# Altium footprint library THU VIEN 2.PcbLib: 12 footprints
Each footprint in its own frame and in the unit in brackets; x right, y up, seen from the top. Pads: shape width x height; smd on the part's side, far side on the other; paste and mask are expansions set on the pad; w line width, h text height; cw(c..) or ccw(c..) is an arc to the next point about the centre after c.
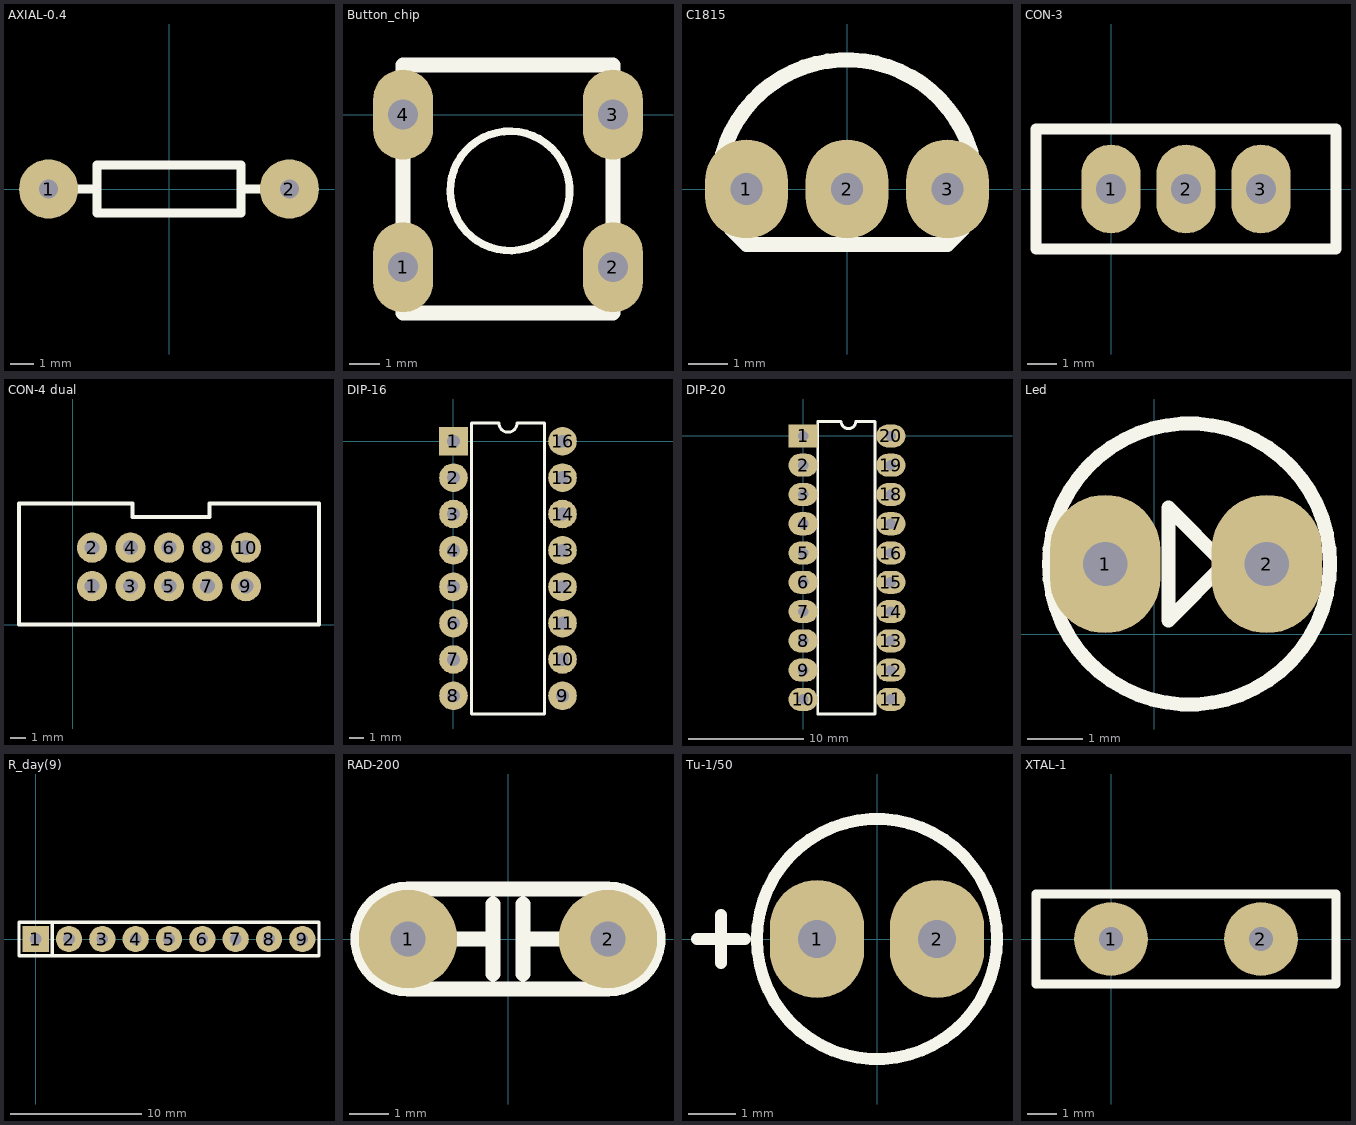
[diagram p0: the footprints below, top view; thin cyan lines are the x and y axes]

## AXIAL-0.4 [mm]
pads (2):
  round 2.5 hole 0.8: 1(-5.08,0) 2(5.08,0)
Top Overlay:
  lines w0.381: -4.064,0 -3.048,0 ; 3.048,0 4.064,0 ; -3.048,-1.016 3.048,-1.016 3.048,1.016 -3.048,1.016 -3.048,-1.016

## Button_chip [mm]
pads (4):
  oval 2x3 hole 1: 1(7.62,-5.08) 2(14.605,-5.08) 3(14.605,0) 4(7.62,0)
Top Overlay:
  lines w0.254: 13.16,-2.416 cw(c11.176,-2.54) 13.159,-2.408
  lines w0.5: 7.62,-6.604 7.62,1.651 14.605,1.651 14.605,-6.604 7.62,-6.604

## C1815 [mm]
pads (3):
  oval 2.1x2.5 hole 0.8: 1(-2.54,0) 2(0,0) 3(2.54,0)
Top Overlay:
  lines w0.381: -3.212,0.584 cw(c0,0) 3.202,0.64 ; -2.921,-1.016 -2.54,-1.397 2.54,-1.397 2.921,-1.016

## CON-3 [mm]
pads (3):
  oval 2x3 hole 1: 1(0,0) 2(2.54,0) 3(5.08,0)
Top Overlay:
  lines w0.381: -2.54,-2.032 7.62,-2.032 7.62,2.032 -2.54,2.032 -2.54,-2.032

## CON-4 dual [mm]
pads (10):
  round 2 hole 1: 1(1.27,2.54) 2(1.27,5.08) 3(3.81,2.54) 4(3.81,5.08) 5(6.35,2.54) 6(6.35,5.08) 7(8.89,2.54) 8(8.89,5.08) 9(11.43,2.54) 10(11.43,5.08)
Top Overlay:
  lines w0.254: -3.556,0 -3.556,8.001 3.937,8.001 3.937,7.112 9.017,7.112 9.017,8.001 16.256,8.001 16.256,0 -3.556,0

## DIP-16 [mm]
pads (16):
  rect 2x2 hole 0.9: 1(0,0)
  round 2 hole 0.9: 2(0,-2.54) 3(0,-5.08) 4(0,-7.62) 5(0,-10.16) 6(0,-12.7) 7(0,-15.24) 8(0,-17.78) 9(7.62,-17.78) 10(7.62,-15.24) 11(7.62,-12.7) 12(7.62,-10.16) 13(7.62,-7.62) 14(7.62,-5.08) 15(7.62,-2.54) 16(7.62,0)
Top Overlay:
  lines w0.2: 1.27,-19.05 6.35,-19.05 6.35,1.27 4.445,1.27 cw(c3.81,1.27) 3.175,1.27 1.27,1.27 1.27,-19.05

## DIP-20 [mm]
pads (20):
  rect 2.54x2 hole 0.9: 1(0,0)
  oval 2.54x2 hole 0.9: 2(0,-2.54) 3(0,-5.08) 4(0,-7.62) 5(0,-10.16) 6(0,-12.7) 7(0,-15.24) 8(0,-17.78) 9(0,-20.32) 10(0,-22.86) 11(7.62,-22.86) 12(7.62,-20.32) 13(7.62,-17.78) 14(7.62,-15.24) 15(7.62,-12.7) 16(7.62,-10.16) 17(7.62,-7.62) 18(7.62,-5.08) 19(7.62,-2.54) 20(7.62,0)
Top Overlay:
  lines w0.254: 1.27,-24.13 6.223,-24.13 6.223,-11.43 6.223,1.27 4.572,1.27 cw(c3.937,1.27) 3.302,1.27 1.27,1.27 1.27,-24.13

## Led [mm]
pads (2):
  oval 2x2.5 hole 0.8: 1(-0.889,1.27) 2(2.032,1.27)
Top Overlay:
  circle w0.254: c0.635,1.27 r2.54
  lines w0.254: 0.254,0.254 0.254,0.508 0.254,2.286 1.27,1.27 0.254,0.254

## R_day(9) [mm]
pads (9):
  rect 2x2 hole 0.9: 1(0,0)
  round 2 hole 0.9: 2(2.54,0) 3(5.08,0) 4(7.62,0) 5(10.16,0) 6(12.7,0) 7(15.24,0) 8(17.78,0) 9(20.32,0)
Top Overlay:
  lines w0.254: 1.27,-1.27 1.27,1.27 ; -1.27,-1.27 21.59,-1.27 21.59,1.27 -1.27,1.27 -1.27,-1.27

## RAD-200 [mm]
pads (2):
  round 2.5 hole 0.9: 1(-2.54,0) 2(2.54,0)
Top Overlay:
  lines w0.381: -2.54,0 -0.381,0 ; -0.381,-0.889 -0.381,0 ; -0.381,0.889 -0.381,0 ; 0.381,-0.889 0.381,0 ; 0.381,0.889 0.381,0 ; 2.54,0 0.381,0 ; -2.54,-1.27 cw(c-2.54,0) -2.54,1.27 2.54,1.27 cw(c2.54,0) 2.54,-1.27 -2.54,-1.27

## Tu-1/50 [mm]
pads (2):
  oval 2x2.5 hole 0.8: 1(-1.27,0) 2(1.27,0)
Top Overlay:
  circle w0.254: c0,0 r2.54
  lines w0.254: -3.81,0 -2.794,0 ; -3.302,-0.508 -3.302,0.508

## XTAL-1 [mm]
pads (2):
  round 2.5 hole 0.8: 1(0,0) 2(5.08,0)
Top Overlay:
  lines w0.305: -2.54,-1.524 -2.54,1.524 7.62,1.524 7.62,-1.524 -2.54,-1.524